# EAGLE library part MFS201N-24-Z (library MFS201N-24-Z)
SWITCH SLIDE DPDT 300MA 30V Source: Datasheet
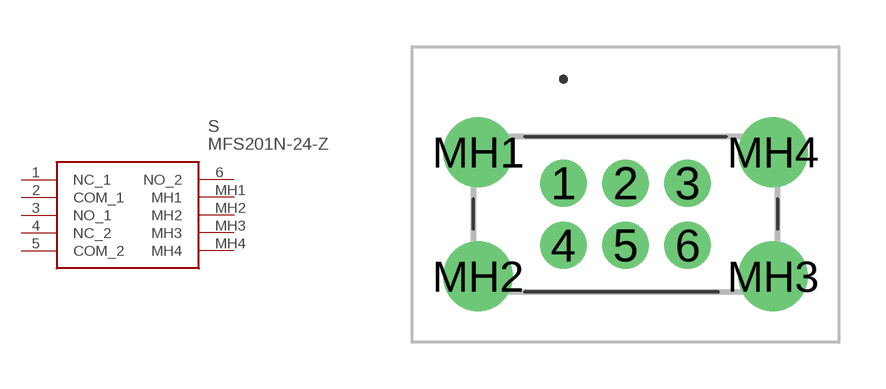
[diagram p0: symbol with the pads of MFS201N24Z; footprint MFS201N24Z]

Designator prefix S

## MFS201N-24-Z (Description: SWITCH SLIDE DPDT 300MA 30V; Height: 4mm; Manufacturer_Name: Nidec Copal; Manufacturer_Part_Number: MFS201N-24-Z)  [MFS201N24Z]
1  NC_1
2  COM_1
3  NO_1
4  NC_2
5  COM_2
6  NO_2
MH1  MH1
MH2  MH2
MH3  MH3
MH4  MH4

## Footprint MFS201N24Z (pad centres in mm)
MFS201N-24-Z-1
drill 1 pad 1.5: 1 0,0; 2 2,0; 3 4,0; 4 0,-2; 5 2,-2; 6 4,-2
drill 1.5 pad 2.25: MH1 -2.75,1; MH2 -2.75,-3; MH3 6.75,-3; MH4 6.75,1